# Altium schematic symbol library TL072CP.SchLib: 1 symbol
Pins are listed as number, name and electrical type; pins without a type are passive.

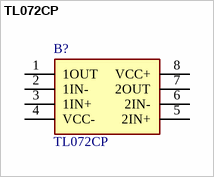
[diagram p0: symbol TL072CP]

## TL072CP
designator B?
Dual Low-Noise JFET-Input General-Purpose Operational Amplifier; Manufacturer_Name: Texas Instruments; Geometry.Height: 5.08mm; Mouser Part Number: 595-TL072CP; Mouser Price/Stock: https://www.mouser.co.uk/ProductDetail/Texas-Instruments/TL072CP?qs=5nGYs9Do7G3e6Tx9uHIgUA%3D%3D; Manufacturer_Part_Number: TL072CP; Datasheet Link: http://www.ti.com/lit/ds/symlink/tl071a.pdf
footprint DIP794W53P254L959H508Q8N
pins: 1 1OUT, 2 1IN-, 3 1IN+, 4 VCC-, 5 2IN+, 6 2IN-, 7 2OUT, 8 VCC+